# EAGLE library part QMC5883L-TR (library QMC5883L-TR)
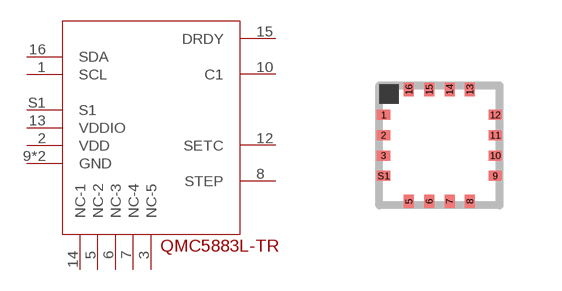
[diagram p0: symbol with the pads of QMC5882L-TR; footprint QMC5882L-TR]

Designator prefix IC

## QMC5883L-TR  [QMC5882L-TR]
1  SCL
2  VDD
3  NC-5
5  NC-2
6  NC-3
7  NC-4
8  STEP
9  GND
10  C1
11  GND
12  SETC
13  VDDIO
14  NC-1
15  DRDY
16  SDA
S1  S1

## Footprint QMC5882L-TR (pad centres in mm)
smd 0.325 x 0.25: 1 -1.397,0.762; 2 -1.397,0.254; 3 -1.397,-0.254; 9 1.397,-0.762; 10 1.397,-0.254; 11 1.397,0.254; 12 1.397,0.762; S1 -1.397,-0.762
smd 0.25 x 0.325: 5 -0.762,-1.397; 6 -0.254,-1.397; 7 0.254,-1.397; 8 0.762,-1.397; 13 0.762,1.397; 14 0.254,1.397; 15 -0.254,1.397; 16 -0.762,1.397